# EAGLE library part CY62167E (library cy62167)
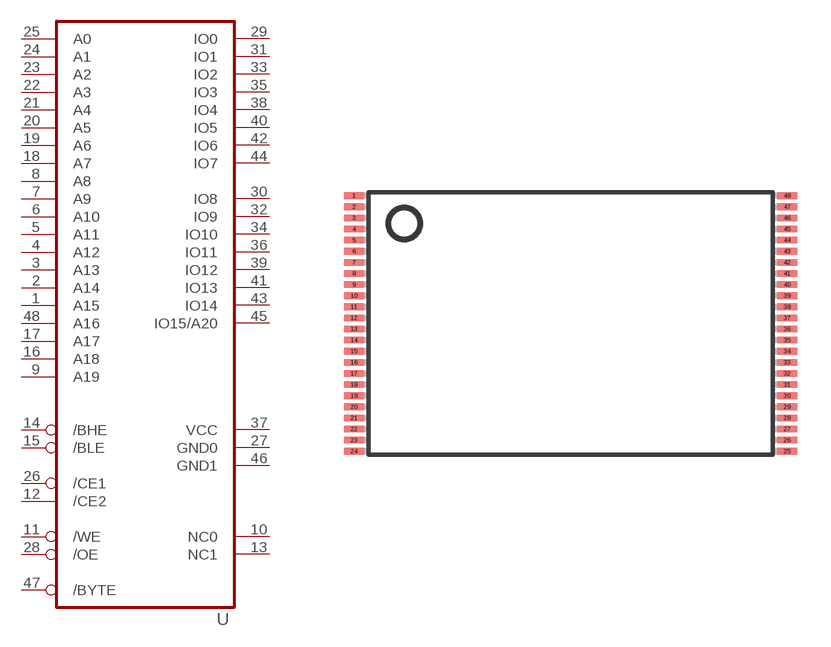
[diagram p0: symbol with the pads of TSOP48; footprint TSOP48]

Designator prefix -

## CY62167E  [TSOP48]
1  A15  in
2  A14  in
3  A13  in
4  A12  in
5  A11  in
6  A10  in
7  A9  in
8  A8  in
9  A19  in
10  NC0  nc
11  /WE  in
12  /CE2  in
13  NC1  nc
14  /BHE  in
15  /BLE  in
16  A18  in
17  A17  in
18  A7  in
19  A6  in
20  A5  in
21  A4  in
22  A3  in
23  A2  in
24  A1  in
25  A0  in
26  /CE1  in
27  GND0  pwr
28  /OE  in
29  IO0  hiz
30  IO8  hiz
31  IO1  hiz
32  IO9  hiz
33  IO2  hiz
34  IO10  hiz
35  IO3  hiz
36  IO11  hiz
37  VCC  pwr
38  IO4  hiz
39  IO12  hiz
40  IO5  hiz
41  IO13  hiz
42  IO6  hiz
43  IO14  hiz
44  IO7  hiz
45  IO15/A20  hiz
46  GND1  pwr
47  /BYTE  in
48  A16  in

## Footprint TSOP48 (pad centres in mm)
smd 0.9 x 0.3: 1 -9.75,5.75; 2 -9.75,5.25; 3 -9.75,4.75; 4 -9.75,4.25; 5 -9.75,3.75; 6 -9.75,3.25; 7 -9.75,2.75; 8 -9.75,2.25; 9 -9.75,1.75; 10 -9.75,1.25; 11 -9.75,0.75; 12 -9.75,0.25; 13 -9.75,-0.25; 14 -9.75,-0.75; 15 -9.75,-1.25; 16 -9.75,-1.75; 17 -9.75,-2.25; 18 -9.75,-2.75; 19 -9.75,-3.25; 20 -9.75,-3.75; 21 -9.75,-4.25; 22 -9.75,-4.75; 23 -9.75,-5.25; 24 -9.75,-5.75; 25 9.75,-5.75; 26 9.75,-5.25; 27 9.75,-4.75; 28 9.75,-4.25; 29 9.75,-3.75; 30 9.75,-3.25; 31 9.75,-2.75; 32 9.75,-2.25; 33 9.75,-1.75; 34 9.75,-1.25; 35 9.75,-0.75; 36 9.75,-0.25; 37 9.75,0.25; 38 9.75,0.75; 39 9.75,1.25; 40 9.75,1.75; 41 9.75,2.25; 42 9.75,2.75; 43 9.75,3.25; 44 9.75,3.75; 45 9.75,4.25; 46 9.75,4.75; 47 9.75,5.25; 48 9.75,5.75